# Altium footprint library PPTC061LFBN-RC.PCBLIB: 1 footprints
Each footprint in its own frame and in the unit in brackets; x right, y up, seen from the top. Pads: shape width x height; smd on the part's side, far side on the other; paste and mask are expansions set on the pad; w line width, h text height; cw(c..) or ccw(c..) is an arc to the next point about the centre after c.
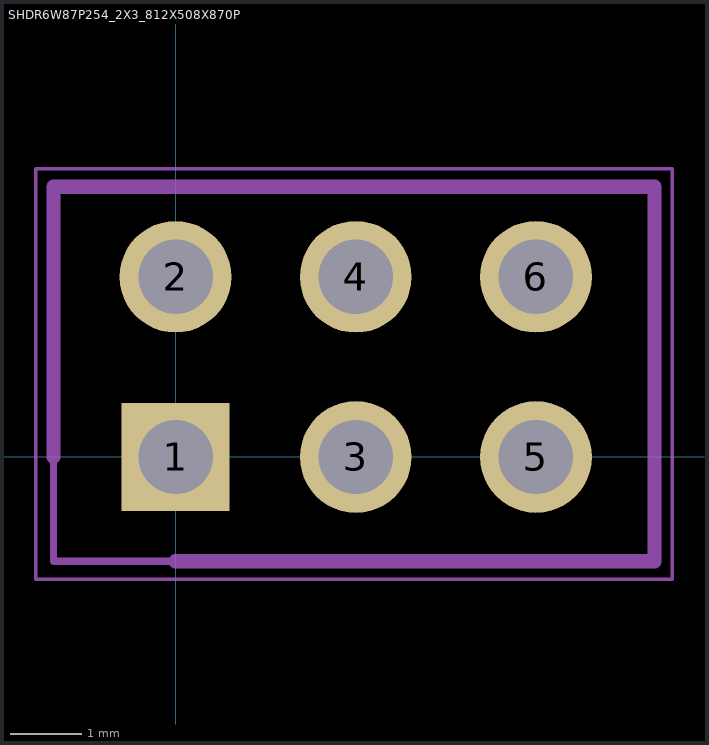
[diagram p0: the footprint, top view; thin cyan lines are the x and y axes]

## SHDR6W87P254_2X3_812X508X870P [mil]
pads (6):
  rect 60.04x60.04 / inner rect 60x60 / far side rect 60.04x60.04 hole 41.34: 1(0,0)
  round 62.01 / inner round 60 / far side round 62.01 hole 41.34: 2(0,100) 3(100,0) 4(100,100) 5(200,0) 6(200,100)
Mechanical 8:
  lines w1.97: -77.56,-67.72 -77.56,159.84 275.59,159.84 275.59,-67.72 -77.56,-67.72
  lines w3.94: -67.72,-57.87 -67.72,150 265.75,150 265.75,-57.87 -67.72,-57.87
Mechanical 22:
  lines w7.87: -67.72,0 -67.72,150 265.75,150 265.75,-57.87 0,-57.87